# Altium schematic symbol library QRE1113.SchLib: 1 symbol
Pins are listed as number, name and electrical type; pins without a type are passive.

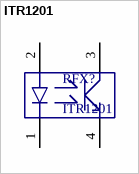
[diagram p0: symbol ITR1201]

## ITR1201
designator RFX?
Name: ITR1201
footprint LCC4 - duplicate4
pins: 1, 2, 3, 4